# Altium footprint library DM3AT-SF-PEJM5.PcbLib: 1 footprints
Each footprint in its own frame and in the unit in brackets; x right, y up, seen from the top. Pads: shape width x height; smd on the part's side, far side on the other; paste and mask are expansions set on the pad; w line width, h text height; cw(c..) or ccw(c..) is an arc to the next point about the centre after c.
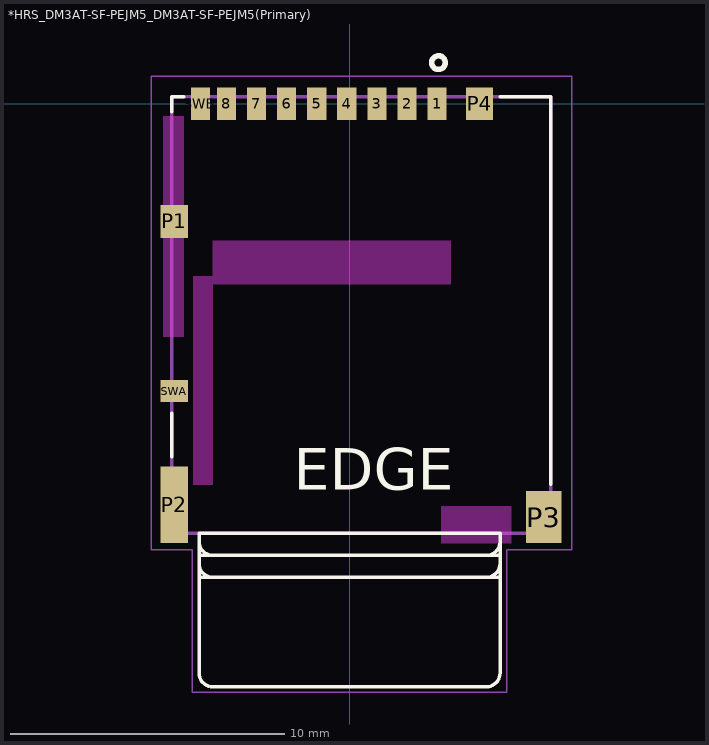
[diagram p0: the footprint, top view; thin cyan lines are the x and y axes]

## *HRS_DM3AT-SF-PEJM5_DM3AT-SF-PEJM5(Primary) [mm]
pads (14):
  rect 0.7x1.2 smd: 1(3.2,0) 2(2.1,0) 3(1,0) 4(-0.1,0) 5(-1.2,0) 6(-2.3,0) 7(-3.4,0) 8(-4.5,0) SWB(-5.45,0)
  rect 1x1.2 smd: P1(-6.4,-4.3) P4(4.75,0)
  rect 1x2.8 smd: P2(-6.4,-14.65)
  rect 1.3x1.9 smd: P3(7.1,-15.1)
  rect 1x0.8 smd: SWA(-6.4,-10.5)
Top Overlay:
  circle w0.2: c3.25,1.5 r0.25
  lines w0.127: -6.5,-12.9 -6.5,-11.3 ; -6.5,-0.3 -6.5,0.25 -6.05,0.25 ; 5.5,0.25 7.35,0.25 7.35,-13.9 ; -5.5,-17.3 -5.5,-20.8 ccw(c-5,-20.8) -5,-21.3 5,-21.3 ccw(c5,-20.8) 5.5,-20.8 5.5,-17.3 ; -5.5,-17.3 -5.5,-16.8 ; -5.5,-17.3 -5,-17.3 ; -5.5,-16.8 ccw(c-5,-16.8) -5,-17.3 ; -5.5,-16.8 -5.5,-16.5 ; -5.5,-16.5 -5.5,-16 ; -5.5,-16.5 -5,-16.5 ; -5.5,-16 ccw(c-5,-16) -5,-16.5 ; -5.5,-16 -5.5,-15.7 5.5,-15.7 5.5,-16 ; -5,-17.3 5,-17.3 ; -5,-16.5 5,-16.5 ; 5,-17.3 ccw(c5,-16.8) 5.5,-16.8 ; 5,-17.3 5.5,-17.3 ; 5,-16.5 ccw(c5,-16) 5.5,-16 ; 5,-16.5 5.5,-16.5 ; 5.5,-17.3 5.5,-16.8 ; 5.5,-16.8 5.5,-16.5 ; 5.5,-16.5 5.5,-16
  text "EDGE" at -2.032,-14.097 h1.52
Keep-Out Layer:
  region: 3.351,-14.7 5.9,-14.7 5.9,-16.057 3.351,-16.057
  region: -5.003,-5 3.7,-5 3.7,-6.604 -5.003,-6.604
  region: -5.706,-6.3 -5,-6.3 -5,-13.915 -5.706,-13.915
  region: -6.804,-4.9 -6.05,-4.9 -6.05,-8.505 -6.804,-8.505
  region: -6.813,-0.45 -6.05,-0.45 -6.05,-3.707 -6.813,-3.707
  region: 3.351,-14.7 5.9,-14.7 5.9,-16.057 3.351,-16.057
  region: -5.003,-5 3.7,-5 3.7,-6.604 -5.003,-6.604
  region: -5.706,-6.3 -5,-6.3 -5,-13.915 -5.706,-13.915
  region: -6.804,-4.9 -6.05,-4.9 -6.05,-8.505 -6.804,-8.505
  region: -6.813,-0.45 -6.05,-0.45 -6.05,-3.707 -6.813,-3.707
  region: 3.351,-14.7 5.9,-14.7 5.9,-16.057 3.351,-16.057
  region: -5.003,-5 3.7,-5 3.7,-6.604 -5.003,-6.604
  region: -5.706,-6.3 -5,-6.3 -5,-13.915 -5.706,-13.915
  region: -6.804,-4.9 -6.05,-4.9 -6.05,-8.505 -6.804,-8.505
  region: -6.813,-0.45 -6.05,-0.45 -6.05,-3.707 -6.813,-3.707
Mechanical 13:
  lines w0.127: -6.5,-15.7 -6.5,0.25 ; -6.5,-15.7 7.35,-15.7 ; -6.5,-15.7 -6.5,0.25 ; -6.5,-15.7 7.35,-15.7 ; -6.5,0.25 7.35,0.25 ; -6.5,0.25 7.35,0.25 ; 7.35,-15.7 7.35,0.25 ; 7.35,-15.7 7.35,0.25
Mechanical 15:
  lines w0.05: -7.25,-16.3 -7.25,1 8.125,1 8.125,-16.3 5.75,-16.3 5.75,-21.5 -5.75,-21.5 -5.75,-16.3 -7.25,-16.3